# Altium footprint library Soardra.PcbLib: 139 footprints (part 1 of 9)
Each footprint in its own frame and in the unit in brackets; x right, y up, seen from the top. Pads: shape width x height; smd on the part's side, far side on the other; paste and mask are expansions set on the pad; w line width, h text height; cw(c..) or ccw(c..) is an arc to the next point about the centre after c.
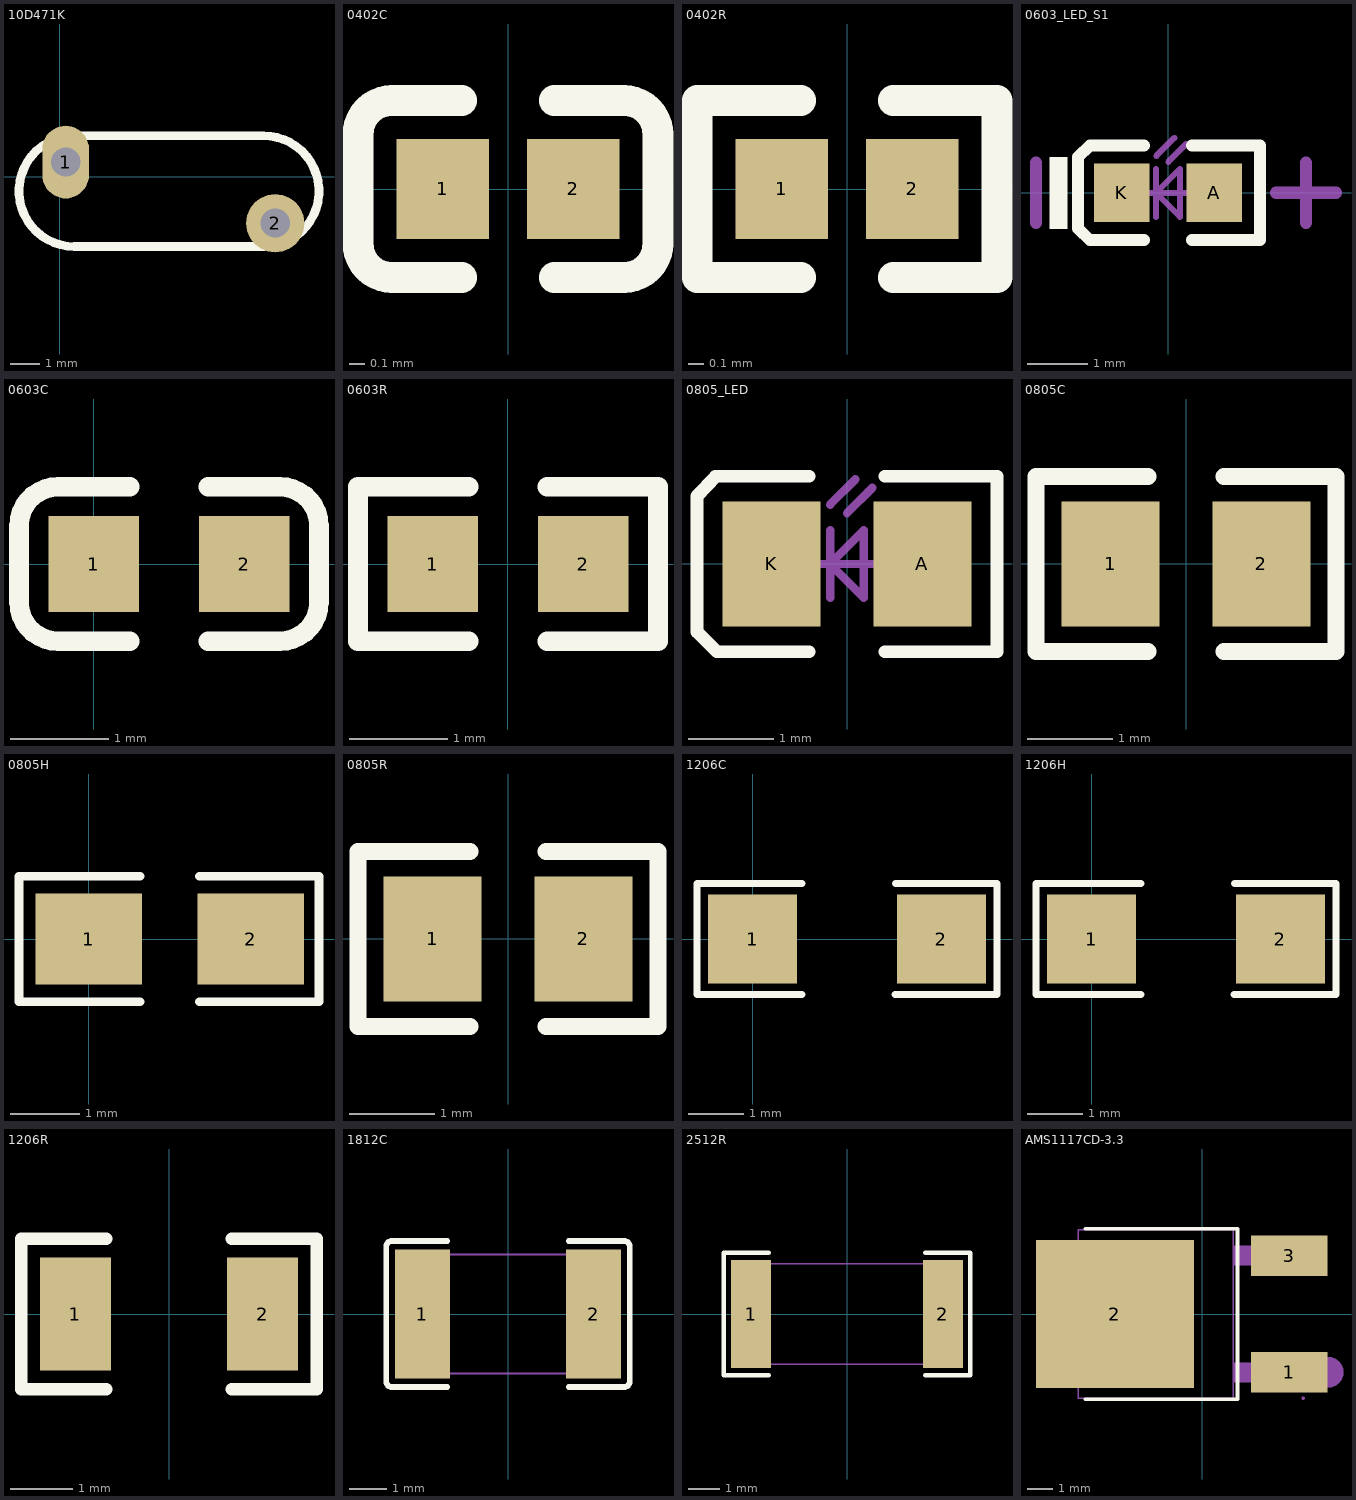
[diagram p0: the footprints below, top view; thin cyan lines are the x and y axes]

## 10D471K [mm]
pads (2):
  oval 1.6x2.5 hole 1: 1(0.2,0.5)
  round 2 hole 1: 2(7.4,-1.6)
Top Overlay:
  lines w0.3: 0.5,-2.405 cw(c0.5,-0.5) 0.5,1.405 ; 7,-2.405 ccw(c7,-0.5) 7,1.405
  lines w0.305: 0.5,-2.405 7,-2.405 ; 0.504,1.405 7,1.405

## 0402C [mm]
pads (2):
  rect 0.6x0.65 smd mask+0.051: 1(-0.425,0) 2(0.425,0)
Top Overlay:
  lines w0.2: -0.755,-0.575 cw(c-0.755,-0.355) -0.975,-0.355 -0.975,0.355 cw(c-0.755,0.355) -0.755,0.575 ; -0.75,-0.575 -0.3,-0.575 ; -0.75,0.575 -0.3,0.575 ; 0.3,-0.575 0.75,-0.575 ; 0.3,0.575 0.75,0.575 ; 0.755,-0.575 ccw(c0.755,-0.355) 0.975,-0.355 0.975,0.355 ccw(c0.755,0.355) 0.755,0.575
3D body "0402 SMD Capacitor.step": height 0.2, standoff 0, extent -0.483,-0.3 0.518,0.3

## 0402R [mm]
pads (2):
  rect 0.6x0.65 smd mask+0.051: 1(-0.425,0) 2(0.425,0)
Top Overlay:
  lines w0.2: -0.3,-0.575 -0.975,-0.575 -0.975,0.575 -0.3,0.575 ; 0.3,-0.575 0.975,-0.575 0.975,0.575 0.3,0.575
3D body "User Library-RES_1005-0402.STEP": height 0.41, standoff 0, extent -0.575,-0.275 0.575,0.275

## 0603_LED_S1 [mm]
height 15
pads (2):
  rect 0.93x0.98 smd: A(0.77,0) K(-0.77,0)
Top Overlay:
  rectangle: -1.975,-0.6 -1.675,0.6
  lines w0.2: -0.4,-0.79 -1.3,-0.79 -1.5,-0.597 -1.5,0.597 -1.3,0.79 -0.4,0.79 ; 0.4,-0.79 1.535,-0.79 1.535,0.79 0.4,0.79
Mechanical 13:
  lines w0.1: -0.4,0 0.4,0 ; -0.2,-0.4 -0.2,0.4 ; -0.195,0.617 0.105,0.917 ; 0.005,0.517 0.305,0.817 ; -0.2,0 0.2,-0.4 0.2,0.4 -0.2,0
Mechanical 15:
  lines w0.203: -2.2,-0.5 -2.2,0.5 ; 1.8,0 2.8,0 ; 2.3,-0.5 2.3,0.5
3D body "User Library-LED_0603_R.STEP": height 0.6, standoff 0, extent -0.8,-0.4 0.8,0.4

## 0603C [mm]
pads (2):
  rect 0.93x0.98 smd: 1(0,0) 2(1.54,0)
Top Overlay:
  lines w0.2: 0.37,-0.79 -0.365,-0.79 cw(c-0.365,-0.39) -0.765,-0.39 -0.765,0.39 cw(c-0.365,0.39) -0.365,0.79 0.37,0.79 ; 1.17,-0.79 1.905,-0.79 ccw(c1.905,-0.39) 2.305,-0.39 2.305,0.39 ccw(c1.905,0.39) 1.905,0.79 1.17,0.79
3D body: height 0.3, standoff 0, extent -0.03,-0.4 1.57,0.4

## 0603R [mm]
height 15
pads (2):
  rect 0.93x0.98 smd: 1(-0.77,0) 2(0.77,0)
Top Overlay:
  lines w0.2: -0.4,-0.79 -1.535,-0.79 -1.535,0.79 -0.4,0.79 ; 0.4,-0.79 1.535,-0.79 1.535,0.79 0.4,0.79
3D body "User Library-RES_1609-0603.STEP": height 0.56, standoff 0, extent -0.85,-0.4 0.85,0.4

## 0805_LED [mm]
pads (2):
  rect 1.16x1.47 smd: A(0.89,0) K(-0.89,0)
Top Overlay:
  lines w0.152: -0.45,-1.035 -1.535,-1.035 -1.77,-0.8 -1.77,0.8 -1.55,1.035 -0.45,1.035 ; 0.45,-1.035 1.77,-1.035 1.77,1.035 0.45,1.035
Mechanical 13:
  lines w0.1: -0.4,0 0.4,0 ; -0.2,-0.4 -0.2,0.4 ; -0.2,0.7 0.1,1 ; 0,0.6 0.3,0.9 ; -0.2,0 0.2,-0.4 0.2,0.4 -0.2,0
3D body: height 1.1, standoff 0, extent -1.01,-0.625 1.01,0.625

## 0805C [mm]
height 0.5
pads (2):
  rect 1.16x1.47 smd: 1(-0.89,0) 2(0.89,0)
Top Overlay:
  lines w0.2: -0.45,-1.035 -1.77,-1.035 -1.77,1.035 -0.45,1.035 ; 0.45,-1.035 1.77,-1.035 1.77,1.035 0.45,1.035

## 0805H [mm]
pads (2):
  rect 1.524x1.3 smd: 1(0,0) 2(2.324,0)
Top Overlay:
  lines w0.127: 0.735,0.9 -1,0.9 -1,-0.9 0.737,-0.9 ; 1.585,-0.9 3.3,-0.9 3.3,0.9 1.585,0.9

## 0805R [mm]
height 0.5
pads (2):
  rect 1.16x1.47 smd: 1(-0.89,0) 2(0.89,0)
Top Overlay:
  lines w0.2: -0.45,-1.035 -1.77,-1.035 -1.77,1.035 -0.45,1.035 ; 0.45,-1.035 1.77,-1.035 1.77,1.035 0.45,1.035
3D body "User Library-R_0805.STEP": height 0.49, standoff -0.01, extent -0.997,-0.625 1.003,0.625

## 1206C [mm]
pads (2):
  rect 1.6x1.6 smd: 1(0,0) 2(3.4,0)
Top Overlay:
  lines w0.127: 0.89,-1 -1,-1 -1,1 0.89,1 ; 2.567,-1 4.4,-1 4.4,1 2.577,1

## 1206H [mm]
pads (2):
  rect 1.6x1.6 smd: 1(0,0) 2(3.4,0)
Top Overlay:
  lines w0.127: 0.89,-1 -1,-1 -1,1 0.89,1 ; 2.567,-1 4.4,-1 4.4,1 2.577,1

## 1206R [mm]
pads (2):
  rect 1.13x1.8 smd: 1(-1.49,0) 2(1.49,0)
Top Overlay:
  lines w0.2: -1,-1.2 -2.355,-1.2 -2.355,1.2 -1,1.2 ; 1,-1.2 2.355,-1.2 2.355,1.2 1,1.2
3D body "User Library-RES_3216-1206.STEP": height 0.85, standoff 0, extent -1.7,-0.864 1.65,0.866

## 1812C [mm]
pads (2):
  rect 1.485x3.456 smd paste-100 mask+0.051: 1(-2.293,0) 2(2.293,0)
Top Overlay:
  lines w0.152: -1.626,-1.957 -3.111,-1.957 cw(c-3.111,-1.804) -3.264,-1.804 -3.264,1.804 cw(c-3.111,1.804) -3.111,1.957 -1.626,1.957 ; 1.626,-1.957 3.111,-1.957 ccw(c3.111,-1.804) 3.264,-1.804 3.264,1.804 ccw(c3.111,1.804) 3.111,1.957 1.626,1.957
Top Paste:
  region: -1.55,-1.628 -1.55,-0.688 -1.65,-0.588 -1.955,-0.588 -2.055,-0.488 -2.055,0.488 -1.955,0.588 -1.65,0.588 -1.55,0.688 -1.55,1.628 -1.65,1.728 -2.935,1.728 -3.035,1.628 -3.035,-1.628 -2.935,-1.728 -1.65,-1.728
  region: 1.55,-1.628 1.55,-0.688 1.65,-0.588 1.955,-0.588 2.055,-0.488 2.055,0.488 1.955,0.588 1.65,0.588 1.55,0.688 1.55,1.628 1.65,1.728 2.935,1.728 3.035,1.628 3.035,-1.628 2.935,-1.728 1.65,-1.728
Mechanical 15:
  region: 2.3,-1.6 2.3,1.6 1.8,1.6 1.8,-1.6
  region: -2.3,-1.6 -2.3,1.6 -1.8,1.6 -1.8,-1.6
  region: -2.24,-1.6 -2.24,-1.575 -2.275,-1.54 -2.325,-1.54 -2.36,-1.575 -2.36,-1.6 -2.36,-1.625 -2.325,-1.66 -2.275,-1.66 -2.24,-1.625 -2.24,-1.6
  lines w0.051: -2.3,-1.6 2.3,-1.6 2.3,1.6 -2.3,1.6 -2.3,-1.6

## 2512R [mm]
pads (2):
  rect 1.283x3.456 smd paste-100 mask+0.051: 1(-3.066,0) 2(3.066,0)
Top Overlay:
  lines w0.152: -2.501,-1.957 -3.936,-1.957 -3.936,1.957 -2.501,1.957 ; 2.501,-1.957 3.936,-1.957 3.936,1.957 2.501,1.957
Top Paste:
  region: -2.425,-1.628 -2.425,-0.688 -2.525,-0.588 -2.761,-0.588 -2.861,-0.488 -2.861,0.488 -2.761,0.588 -2.525,0.588 -2.425,0.688 -2.425,1.628 -2.525,1.728 -3.608,1.728 -3.708,1.628 -3.708,-1.628 -3.608,-1.728 -2.525,-1.728
  region: 2.425,-1.628 2.425,-0.688 2.525,-0.588 2.761,-0.588 2.861,-0.488 2.861,0.488 2.761,0.588 2.525,0.588 2.425,0.688 2.425,1.628 2.525,1.728 3.608,1.728 3.708,1.628 3.708,-1.628 3.608,-1.728 2.525,-1.728
Mechanical 15:
  region: 2.55,-1.6 2.55,1.6 3.15,1.6 3.15,-1.6
  region: -3.15,-1.6 -3.15,1.6 -2.55,1.6 -2.55,-1.6
  region: -3.115,-1.6 -3.115,-1.575 -3.15,-1.54 -3.2,-1.54 -3.235,-1.575 -3.235,-1.6 -3.235,-1.625 -3.2,-1.66 -3.15,-1.66 -3.115,-1.625 -3.115,-1.6
  lines w0.051: -3.15,-1.6 3.15,-1.6 3.15,1.6 -3.15,1.6 -3.15,-1.6

## AMS1117CD-3.3 [mm] "LDO"
height 15
pads (3):
  rect 3x1.6 smd mask+0.051: 1(3.424,-2.29) 3(3.424,2.29)
  rect 6.2x5.8 smd mask+0.051: 2(-3.424,0)
Top Overlay:
  lines w0.152: -4.585,-3.346 1.383,-3.346 1.383,3.346 -4.585,3.346
Mechanical 6:
  circle w0.6: c4.953,-2.286 r0.3
Mechanical 15:
  region: 4.021,-3.3 4.021,-3.275 3.986,-3.24 3.937,-3.24 3.901,-3.275 3.901,-3.3 3.901,-3.325 3.937,-3.36 3.986,-3.36 4.021,-3.325 4.021,-3.3
  region: 1.211,-2.67 1.211,-1.91 2.381,-1.91 2.381,-2.67
  region: 2.371,-2.67 2.371,-1.91 3.961,-1.91 3.961,-2.67
  region: 1.211,1.91 1.211,2.67 2.381,2.67 2.381,1.91
  region: 2.371,1.91 2.371,2.67 3.961,2.67 3.961,1.91
  region: -4.954,2.505 -0.938,2.505 -0.938,-2.505 -4.954,-2.505 -5.954,-1.505 -5.954,1.505
  lines w0.051: -4.874,-3.3 1.221,-3.3 1.221,3.3 -4.874,3.3 -4.874,-3.3